# Altium schematic symbol library MCP4725A2T-ECH.SchLib: 2 symbols
Pins are listed as number, name and electrical type; pins without a type are passive.

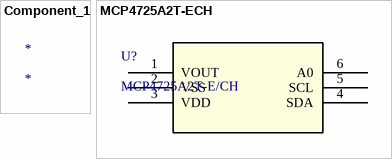
[diagram p0: symbols Component_1 to MCP4725A2T-ECH]

## Component_1
designator *

## MCP4725A2T-ECH
designator U?, comment MCP4725A2T-E/CH
No Description Available; Mfr_Name: Microchip; Copyright: Copyright (C) 2024 Ultra Librarian. All rights reserved.; Manufacturer_Part_Number: MCP4725A2T-E/CH; RefDes: RefDes; Type: DEV
footprint SOT-23-6_MC_MCH
pins: 1 VOUT, 2 VSS, 3 VDD, 4 SDA, 5 SCL, 6 A0